# Altium integrated library ST Memory Cache-Tag RAM.IntLib: 23 symbols
Pins are listed as number, name and electrical type; pins without a type are passive.

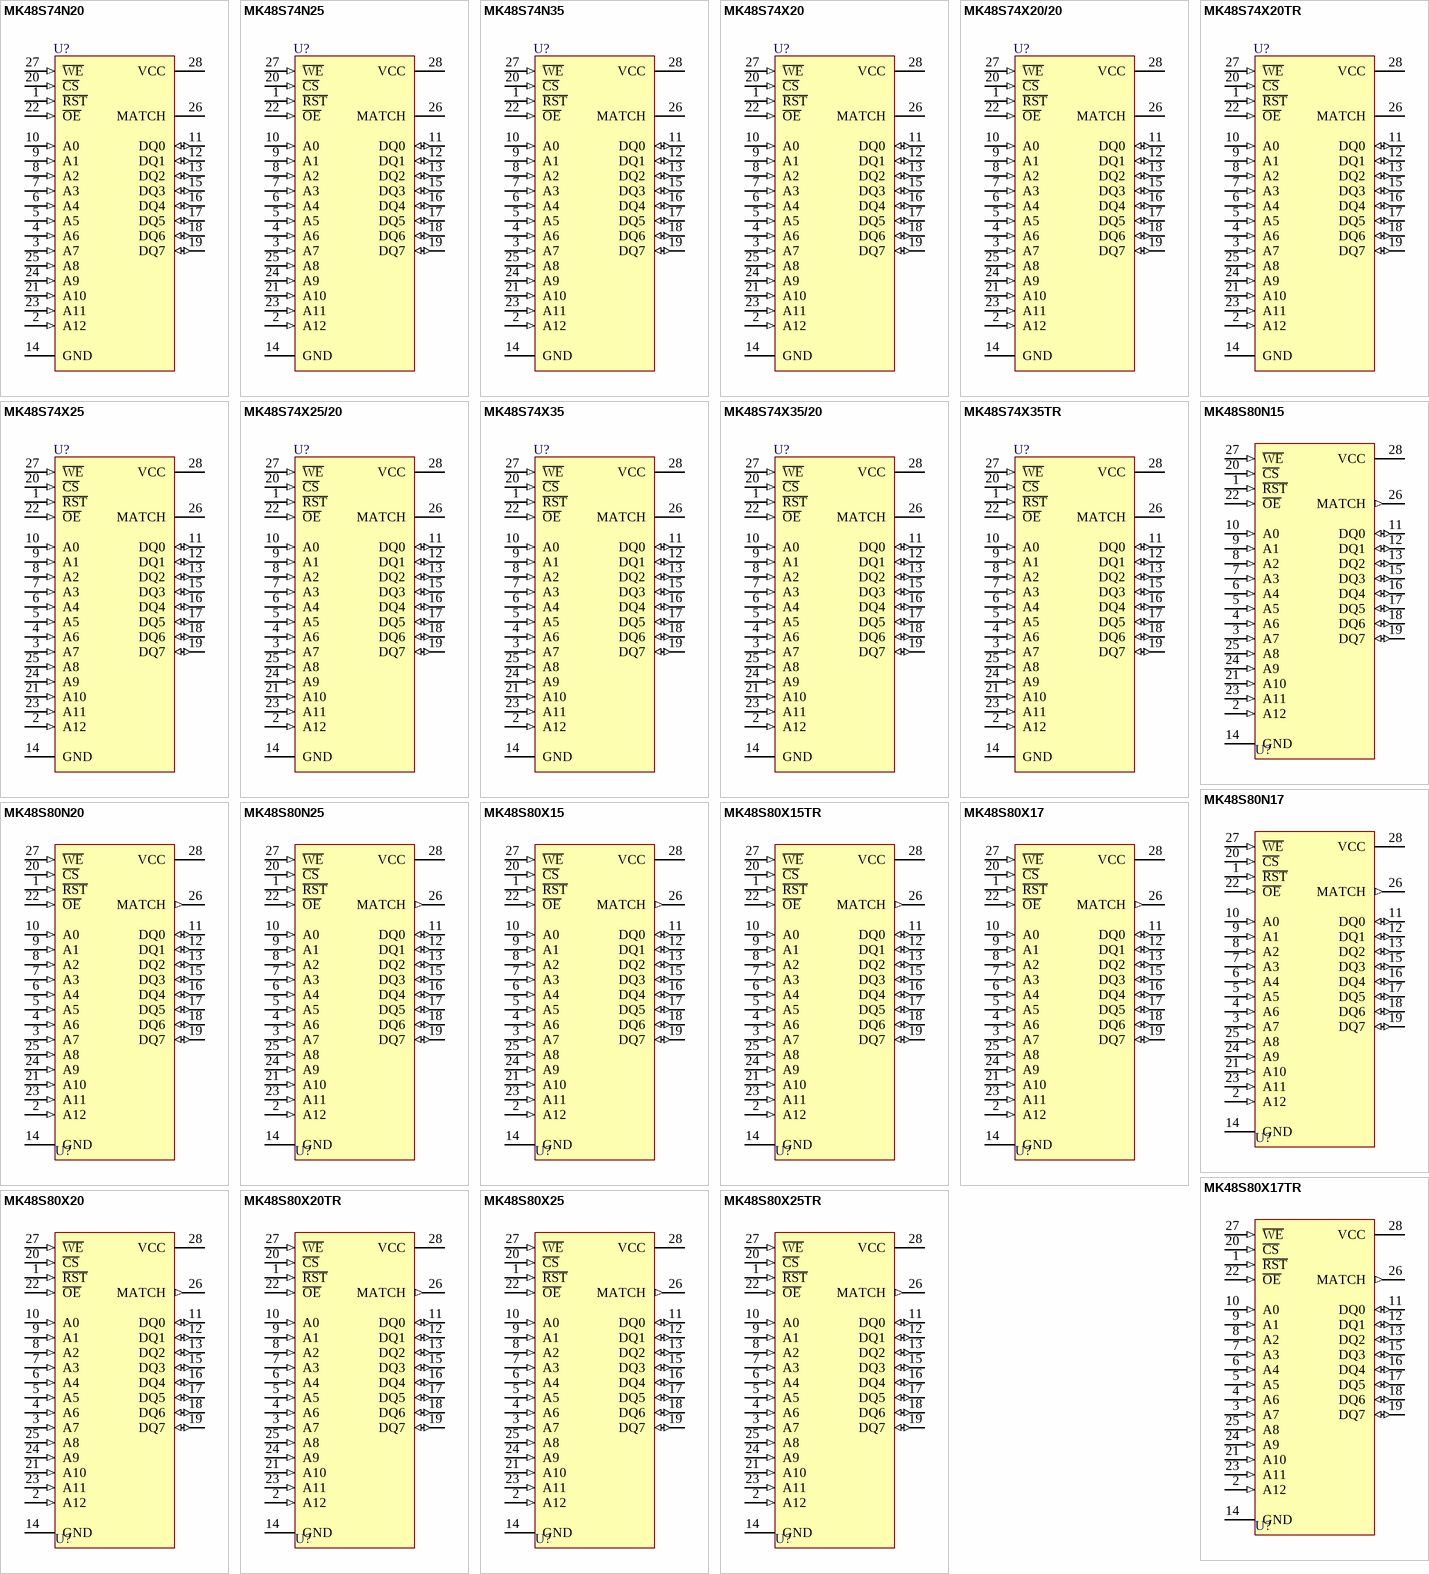
[diagram p0: symbols MK48S74N20 to MK48S80X25TR]

## MK48S74N20
designator U?
Very Fast CMOS 8K x 8 Cache Tagram; Published: 24-Aug-2001; LatestRevisionDate: 6-Jun-2005; LatestRevisionNote: Stylized 3D Model Added.; DatasheetDocument: Feb-1992; PackageReference: PSDIP28; Publisher: Altium Limited; ComponentLink1Description: Manufacturer Link; ComponentLink1URL: http://www.st.com/
footprint PSDIP28 (DIP, Plastic Skinny; 28 Leads; Row Spacing 7.62 mm; Pitch 2.54 mm)
3D model PSDIP28 (DIP, Plastic Skinny; 28 Leads; Row Spacing 7.62 mm; Pitch 2.54 mm)
pins: 1 ~{RST} (in), 2 A12 (in), 3 A7 (in), 4 A6 (in), 5 A5 (in), 6 A4 (in), 7 A3 (in), 8 A2 (in), 9 A1 (in), 10 A0 (in), 11 DQ0 (io), 12 DQ1 (io), 13 DQ2 (io), 14 GND (power), 15 DQ3 (io), 16 DQ4 (io), 17 DQ5 (io), 18 DQ6 (io), 19 DQ7 (io), 20 ~{CS} (in), 21 A10 (in), 22 ~{OE} (in), 23 A11 (in), 24 A9 (in), 25 A8 (in), 26 MATCH (oc), 27 ~{WE} (in), 28 VCC (power)

## MK48S74N25
designator U?
Very Fast CMOS 8K x 8 Cache Tagram; Published: 24-Aug-2001; LatestRevisionDate: 6-Jun-2005; LatestRevisionNote: Stylized 3D Model Added.; DatasheetDocument: Feb-1992; PackageReference: PSDIP28; Publisher: Altium Limited; ComponentLink1Description: Manufacturer Link; ComponentLink1URL: http://www.st.com/
footprint PSDIP28 (DIP, Plastic Skinny; 28 Leads; Row Spacing 7.62 mm; Pitch 2.54 mm)
3D model PSDIP28 (DIP, Plastic Skinny; 28 Leads; Row Spacing 7.62 mm; Pitch 2.54 mm)
pins: 1 ~{RST} (in), 2 A12 (in), 3 A7 (in), 4 A6 (in), 5 A5 (in), 6 A4 (in), 7 A3 (in), 8 A2 (in), 9 A1 (in), 10 A0 (in), 11 DQ0 (io), 12 DQ1 (io), 13 DQ2 (io), 14 GND (power), 15 DQ3 (io), 16 DQ4 (io), 17 DQ5 (io), 18 DQ6 (io), 19 DQ7 (io), 20 ~{CS} (in), 21 A10 (in), 22 ~{OE} (in), 23 A11 (in), 24 A9 (in), 25 A8 (in), 26 MATCH (oc), 27 ~{WE} (in), 28 VCC (power)

## MK48S74N35
designator U?
Very Fast CMOS 8K x 8 Cache Tagram; Published: 24-Aug-2001; LatestRevisionDate: 6-Jun-2005; LatestRevisionNote: Stylized 3D Model Added.; DatasheetDocument: Feb-1992; PackageReference: PSDIP28; Publisher: Altium Limited; ComponentLink1Description: Manufacturer Link; ComponentLink1URL: http://www.st.com/
footprint PSDIP28 (DIP, Plastic Skinny; 28 Leads; Row Spacing 7.62 mm; Pitch 2.54 mm)
3D model PSDIP28 (DIP, Plastic Skinny; 28 Leads; Row Spacing 7.62 mm; Pitch 2.54 mm)
pins: 1 ~{RST} (in), 2 A12 (in), 3 A7 (in), 4 A6 (in), 5 A5 (in), 6 A4 (in), 7 A3 (in), 8 A2 (in), 9 A1 (in), 10 A0 (in), 11 DQ0 (io), 12 DQ1 (io), 13 DQ2 (io), 14 GND (power), 15 DQ3 (io), 16 DQ4 (io), 17 DQ5 (io), 18 DQ6 (io), 19 DQ7 (io), 20 ~{CS} (in), 21 A10 (in), 22 ~{OE} (in), 23 A11 (in), 24 A9 (in), 25 A8 (in), 26 MATCH (oc), 27 ~{WE} (in), 28 VCC (power)

## MK48S74X20
designator U?
Very Fast CMOS 8K x 8 Cache Tagram; Published: 24-Aug-2001; LatestRevisionDate: 17-Jul-2002; LatestRevisionNote: Re-released for DXP Platform.; DatasheetDocument: Feb-1992; PackageDocument: Feb-1997; PackageReference: SOJ28; Publisher: Altium Limited; Code_JEDEC: MO-088-AF; ComponentLink1Description: Manufacturer Link; ComponentLink1URL: http://www.st.com/
footprint SOJ28 (SOJ; 28 Leads; Body Width 7.5 mm; Pitch 1.27 mm)
pins: 1 ~{RST} (in), 2 A12 (in), 3 A7 (in), 4 A6 (in), 5 A5 (in), 6 A4 (in), 7 A3 (in), 8 A2 (in), 9 A1 (in), 10 A0 (in), 11 DQ0 (io), 12 DQ1 (io), 13 DQ2 (io), 14 GND (power), 15 DQ3 (io), 16 DQ4 (io), 17 DQ5 (io), 18 DQ6 (io), 19 DQ7 (io), 20 ~{CS} (in), 21 A10 (in), 22 ~{OE} (in), 23 A11 (in), 24 A9 (in), 25 A8 (in), 26 MATCH (oc), 27 ~{WE} (in), 28 VCC (power)

## MK48S74X20/20
designator U?
Very Fast CMOS 8K x 8 Cache Tagram; Published: 24-Aug-2001; LatestRevisionDate: 17-Jul-2002; LatestRevisionNote: Re-released for DXP Platform.; DatasheetDocument: Feb-1992; PackageDocument: Feb-1997; PackageReference: SOJ28; Publisher: Altium Limited; Code_JEDEC: MO-088-AF; ComponentLink1Description: Manufacturer Link; ComponentLink1URL: http://www.st.com/
footprint SOJ28 (SOJ; 28 Leads; Body Width 7.5 mm; Pitch 1.27 mm)
pins: 1 ~{RST} (in), 2 A12 (in), 3 A7 (in), 4 A6 (in), 5 A5 (in), 6 A4 (in), 7 A3 (in), 8 A2 (in), 9 A1 (in), 10 A0 (in), 11 DQ0 (io), 12 DQ1 (io), 13 DQ2 (io), 14 GND (power), 15 DQ3 (io), 16 DQ4 (io), 17 DQ5 (io), 18 DQ6 (io), 19 DQ7 (io), 20 ~{CS} (in), 21 A10 (in), 22 ~{OE} (in), 23 A11 (in), 24 A9 (in), 25 A8 (in), 26 MATCH (oc), 27 ~{WE} (in), 28 VCC (power)

## MK48S74X20TR
designator U?
Very Fast CMOS 8K x 8 Cache Tagram; Published: 24-Aug-2001; LatestRevisionDate: 17-Jul-2002; LatestRevisionNote: Re-released for DXP Platform.; DatasheetDocument: Feb-1992; PackageDocument: Feb-1997; PackageReference: SOJ28; Publisher: Altium Limited; Code_JEDEC: MO-088-AF; ComponentLink1Description: Manufacturer Link; ComponentLink1URL: http://www.st.com/
footprint SOJ28 (SOJ; 28 Leads; Body Width 7.5 mm; Pitch 1.27 mm)
pins: 1 ~{RST} (in), 2 A12 (in), 3 A7 (in), 4 A6 (in), 5 A5 (in), 6 A4 (in), 7 A3 (in), 8 A2 (in), 9 A1 (in), 10 A0 (in), 11 DQ0 (io), 12 DQ1 (io), 13 DQ2 (io), 14 GND (power), 15 DQ3 (io), 16 DQ4 (io), 17 DQ5 (io), 18 DQ6 (io), 19 DQ7 (io), 20 ~{CS} (in), 21 A10 (in), 22 ~{OE} (in), 23 A11 (in), 24 A9 (in), 25 A8 (in), 26 MATCH (oc), 27 ~{WE} (in), 28 VCC (power)

## MK48S74X25
designator U?
Very Fast CMOS 8K x 8 Cache Tagram; Published: 24-Aug-2001; LatestRevisionDate: 17-Jul-2002; LatestRevisionNote: Re-released for DXP Platform.; DatasheetDocument: Feb-1992; PackageDocument: Feb-1997; PackageReference: SOJ28; Publisher: Altium Limited; Code_JEDEC: MO-088-AF; ComponentLink1Description: Manufacturer Link; ComponentLink1URL: http://www.st.com/
footprint SOJ28 (SOJ; 28 Leads; Body Width 7.5 mm; Pitch 1.27 mm)
pins: 1 ~{RST} (in), 2 A12 (in), 3 A7 (in), 4 A6 (in), 5 A5 (in), 6 A4 (in), 7 A3 (in), 8 A2 (in), 9 A1 (in), 10 A0 (in), 11 DQ0 (io), 12 DQ1 (io), 13 DQ2 (io), 14 GND (power), 15 DQ3 (io), 16 DQ4 (io), 17 DQ5 (io), 18 DQ6 (io), 19 DQ7 (io), 20 ~{CS} (in), 21 A10 (in), 22 ~{OE} (in), 23 A11 (in), 24 A9 (in), 25 A8 (in), 26 MATCH (oc), 27 ~{WE} (in), 28 VCC (power)

## MK48S74X25/20
designator U?
Very Fast CMOS 8K x 8 Cache Tagram; Published: 24-Aug-2001; LatestRevisionDate: 17-Jul-2002; LatestRevisionNote: Re-released for DXP Platform.; DatasheetDocument: Feb-1992; PackageDocument: Feb-1997; PackageReference: SOJ28; Publisher: Altium Limited; Code_JEDEC: MO-088-AF; ComponentLink1Description: Manufacturer Link; ComponentLink1URL: http://www.st.com/
footprint SOJ28 (SOJ; 28 Leads; Body Width 7.5 mm; Pitch 1.27 mm)
pins: 1 ~{RST} (in), 2 A12 (in), 3 A7 (in), 4 A6 (in), 5 A5 (in), 6 A4 (in), 7 A3 (in), 8 A2 (in), 9 A1 (in), 10 A0 (in), 11 DQ0 (io), 12 DQ1 (io), 13 DQ2 (io), 14 GND (power), 15 DQ3 (io), 16 DQ4 (io), 17 DQ5 (io), 18 DQ6 (io), 19 DQ7 (io), 20 ~{CS} (in), 21 A10 (in), 22 ~{OE} (in), 23 A11 (in), 24 A9 (in), 25 A8 (in), 26 MATCH (oc), 27 ~{WE} (in), 28 VCC (power)

## MK48S74X35
designator U?
Very Fast CMOS 8K x 8 Cache Tagram; Published: 24-Aug-2001; LatestRevisionDate: 17-Jul-2002; LatestRevisionNote: Re-released for DXP Platform.; DatasheetDocument: Feb-1992; PackageDocument: Feb-1997; PackageReference: SOJ28; Publisher: Altium Limited; Code_JEDEC: MO-088-AF; ComponentLink1Description: Manufacturer Link; ComponentLink1URL: http://www.st.com/
footprint SOJ28 (SOJ; 28 Leads; Body Width 7.5 mm; Pitch 1.27 mm)
pins: 1 ~{RST} (in), 2 A12 (in), 3 A7 (in), 4 A6 (in), 5 A5 (in), 6 A4 (in), 7 A3 (in), 8 A2 (in), 9 A1 (in), 10 A0 (in), 11 DQ0 (io), 12 DQ1 (io), 13 DQ2 (io), 14 GND (power), 15 DQ3 (io), 16 DQ4 (io), 17 DQ5 (io), 18 DQ6 (io), 19 DQ7 (io), 20 ~{CS} (in), 21 A10 (in), 22 ~{OE} (in), 23 A11 (in), 24 A9 (in), 25 A8 (in), 26 MATCH (oc), 27 ~{WE} (in), 28 VCC (power)

## MK48S74X35/20
designator U?
Very Fast CMOS 8K x 8 Cache Tagram; Published: 24-Aug-2001; LatestRevisionDate: 17-Jul-2002; LatestRevisionNote: Re-released for DXP Platform.; DatasheetDocument: Feb-1992; PackageDocument: Feb-1997; PackageReference: SOJ28; Publisher: Altium Limited; Code_JEDEC: MO-088-AF; ComponentLink1Description: Manufacturer Link; ComponentLink1URL: http://www.st.com/
footprint SOJ28 (SOJ; 28 Leads; Body Width 7.5 mm; Pitch 1.27 mm)
pins: 1 ~{RST} (in), 2 A12 (in), 3 A7 (in), 4 A6 (in), 5 A5 (in), 6 A4 (in), 7 A3 (in), 8 A2 (in), 9 A1 (in), 10 A0 (in), 11 DQ0 (io), 12 DQ1 (io), 13 DQ2 (io), 14 GND (power), 15 DQ3 (io), 16 DQ4 (io), 17 DQ5 (io), 18 DQ6 (io), 19 DQ7 (io), 20 ~{CS} (in), 21 A10 (in), 22 ~{OE} (in), 23 A11 (in), 24 A9 (in), 25 A8 (in), 26 MATCH (oc), 27 ~{WE} (in), 28 VCC (power)

## MK48S74X35TR
designator U?
Very Fast CMOS 8K x 8 Cache Tagram; Published: 24-Aug-2001; LatestRevisionDate: 17-Jul-2002; LatestRevisionNote: Re-released for DXP Platform.; DatasheetDocument: Feb-1992; PackageDocument: Feb-1997; PackageReference: SOJ28; Publisher: Altium Limited; Code_JEDEC: MO-088-AF; ComponentLink1Description: Manufacturer Link; ComponentLink1URL: http://www.st.com/
footprint SOJ28 (SOJ; 28 Leads; Body Width 7.5 mm; Pitch 1.27 mm)
pins: 1 ~{RST} (in), 2 A12 (in), 3 A7 (in), 4 A6 (in), 5 A5 (in), 6 A4 (in), 7 A3 (in), 8 A2 (in), 9 A1 (in), 10 A0 (in), 11 DQ0 (io), 12 DQ1 (io), 13 DQ2 (io), 14 GND (power), 15 DQ3 (io), 16 DQ4 (io), 17 DQ5 (io), 18 DQ6 (io), 19 DQ7 (io), 20 ~{CS} (in), 21 A10 (in), 22 ~{OE} (in), 23 A11 (in), 24 A9 (in), 25 A8 (in), 26 MATCH (oc), 27 ~{WE} (in), 28 VCC (power)

## MK48S80N15
designator U?
Very Fast CMOS 8K x 8 Cache Tagram; Published: 24-Aug-2001; LatestRevisionDate: 6-Jun-2005; LatestRevisionNote: Stylized 3D Model Added.; DatasheetDocument: Feb-1992; PackageReference: PSDIP28; Publisher: Altium Limited; ComponentLink1Description: Manufacturer Link; ComponentLink1URL: http://www.st.com/
footprint PSDIP28 (DIP, Plastic Skinny; 28 Leads; Row Spacing 7.62 mm; Pitch 2.54 mm)
3D model PSDIP28 (DIP, Plastic Skinny; 28 Leads; Row Spacing 7.62 mm; Pitch 2.54 mm)
pins: 1 ~{RST} (in), 2 A12 (in), 3 A7 (in), 4 A6 (in), 5 A5 (in), 6 A4 (in), 7 A3 (in), 8 A2 (in), 9 A1 (in), 10 A0 (in), 11 DQ0 (io), 12 DQ1 (io), 13 DQ2 (io), 14 GND (power), 15 DQ3 (io), 16 DQ4 (io), 17 DQ5 (io), 18 DQ6 (io), 19 DQ7 (io), 20 ~{CS} (in), 21 A10 (in), 22 ~{OE} (in), 23 A11 (in), 24 A9 (in), 25 A8 (in), 26 MATCH (out), 27 ~{WE} (in), 28 VCC (power)

## MK48S80N17
designator U?
Very Fast CMOS 8K x 8 Cache Tagram; Published: 24-Aug-2001; LatestRevisionDate: 6-Jun-2005; LatestRevisionNote: Stylized 3D Model Added.; DatasheetDocument: Feb-1992; PackageReference: PSDIP28; Publisher: Altium Limited; ComponentLink1Description: Manufacturer Link; ComponentLink1URL: http://www.st.com/
footprint PSDIP28 (DIP, Plastic Skinny; 28 Leads; Row Spacing 7.62 mm; Pitch 2.54 mm)
3D model PSDIP28 (DIP, Plastic Skinny; 28 Leads; Row Spacing 7.62 mm; Pitch 2.54 mm)
pins: 1 ~{RST} (in), 2 A12 (in), 3 A7 (in), 4 A6 (in), 5 A5 (in), 6 A4 (in), 7 A3 (in), 8 A2 (in), 9 A1 (in), 10 A0 (in), 11 DQ0 (io), 12 DQ1 (io), 13 DQ2 (io), 14 GND (power), 15 DQ3 (io), 16 DQ4 (io), 17 DQ5 (io), 18 DQ6 (io), 19 DQ7 (io), 20 ~{CS} (in), 21 A10 (in), 22 ~{OE} (in), 23 A11 (in), 24 A9 (in), 25 A8 (in), 26 MATCH (out), 27 ~{WE} (in), 28 VCC (power)

## MK48S80N20
designator U?
Very Fast CMOS 8K x 8 Cache Tagram; Published: 24-Aug-2001; LatestRevisionDate: 6-Jun-2005; LatestRevisionNote: Stylized 3D Model Added.; DatasheetDocument: Feb-1992; PackageReference: PSDIP28; Publisher: Altium Limited; ComponentLink1Description: Manufacturer Link; ComponentLink1URL: http://www.st.com/
footprint PSDIP28 (DIP, Plastic Skinny; 28 Leads; Row Spacing 7.62 mm; Pitch 2.54 mm)
3D model PSDIP28 (DIP, Plastic Skinny; 28 Leads; Row Spacing 7.62 mm; Pitch 2.54 mm)
pins: 1 ~{RST} (in), 2 A12 (in), 3 A7 (in), 4 A6 (in), 5 A5 (in), 6 A4 (in), 7 A3 (in), 8 A2 (in), 9 A1 (in), 10 A0 (in), 11 DQ0 (io), 12 DQ1 (io), 13 DQ2 (io), 14 GND (power), 15 DQ3 (io), 16 DQ4 (io), 17 DQ5 (io), 18 DQ6 (io), 19 DQ7 (io), 20 ~{CS} (in), 21 A10 (in), 22 ~{OE} (in), 23 A11 (in), 24 A9 (in), 25 A8 (in), 26 MATCH (out), 27 ~{WE} (in), 28 VCC (power)

## MK48S80N25
designator U?
Very Fast CMOS 8K x 8 Cache Tagram; Published: 24-Aug-2001; LatestRevisionDate: 6-Jun-2005; LatestRevisionNote: Stylized 3D Model Added.; DatasheetDocument: Feb-1992; PackageReference: PSDIP28; Publisher: Altium Limited; ComponentLink1Description: Manufacturer Link; ComponentLink1URL: http://www.st.com/
footprint PSDIP28 (DIP, Plastic Skinny; 28 Leads; Row Spacing 7.62 mm; Pitch 2.54 mm)
3D model PSDIP28 (DIP, Plastic Skinny; 28 Leads; Row Spacing 7.62 mm; Pitch 2.54 mm)
pins: 1 ~{RST} (in), 2 A12 (in), 3 A7 (in), 4 A6 (in), 5 A5 (in), 6 A4 (in), 7 A3 (in), 8 A2 (in), 9 A1 (in), 10 A0 (in), 11 DQ0 (io), 12 DQ1 (io), 13 DQ2 (io), 14 GND (power), 15 DQ3 (io), 16 DQ4 (io), 17 DQ5 (io), 18 DQ6 (io), 19 DQ7 (io), 20 ~{CS} (in), 21 A10 (in), 22 ~{OE} (in), 23 A11 (in), 24 A9 (in), 25 A8 (in), 26 MATCH (out), 27 ~{WE} (in), 28 VCC (power)

## MK48S80X15
designator U?
Very Fast CMOS 8K x 8 Cache Tagram; Published: 24-Aug-2001; LatestRevisionDate: 17-Jul-2002; LatestRevisionNote: Re-released for DXP Platform.; DatasheetDocument: Feb-1992; PackageDocument: Feb-1997; PackageReference: SOJ28; Publisher: Altium Limited; Code_JEDEC: MO-088-AF; ComponentLink1Description: Manufacturer Link; ComponentLink1URL: http://www.st.com/
footprint SOJ28 (SOJ; 28 Leads; Body Width 7.5 mm; Pitch 1.27 mm)
pins: 1 ~{RST} (in), 2 A12 (in), 3 A7 (in), 4 A6 (in), 5 A5 (in), 6 A4 (in), 7 A3 (in), 8 A2 (in), 9 A1 (in), 10 A0 (in), 11 DQ0 (io), 12 DQ1 (io), 13 DQ2 (io), 14 GND (power), 15 DQ3 (io), 16 DQ4 (io), 17 DQ5 (io), 18 DQ6 (io), 19 DQ7 (io), 20 ~{CS} (in), 21 A10 (in), 22 ~{OE} (in), 23 A11 (in), 24 A9 (in), 25 A8 (in), 26 MATCH (out), 27 ~{WE} (in), 28 VCC (power)

## MK48S80X15TR
designator U?
Very Fast CMOS 8K x 8 Cache Tagram; Published: 24-Aug-2001; LatestRevisionDate: 17-Jul-2002; LatestRevisionNote: Re-released for DXP Platform.; DatasheetDocument: Feb-1992; PackageDocument: Feb-1997; PackageReference: SOJ28; Publisher: Altium Limited; Code_JEDEC: MO-088-AF; ComponentLink1Description: Manufacturer Link; ComponentLink1URL: http://www.st.com/
footprint SOJ28 (SOJ; 28 Leads; Body Width 7.5 mm; Pitch 1.27 mm)
pins: 1 ~{RST} (in), 2 A12 (in), 3 A7 (in), 4 A6 (in), 5 A5 (in), 6 A4 (in), 7 A3 (in), 8 A2 (in), 9 A1 (in), 10 A0 (in), 11 DQ0 (io), 12 DQ1 (io), 13 DQ2 (io), 14 GND (power), 15 DQ3 (io), 16 DQ4 (io), 17 DQ5 (io), 18 DQ6 (io), 19 DQ7 (io), 20 ~{CS} (in), 21 A10 (in), 22 ~{OE} (in), 23 A11 (in), 24 A9 (in), 25 A8 (in), 26 MATCH (out), 27 ~{WE} (in), 28 VCC (power)

## MK48S80X17
designator U?
Very Fast CMOS 8K x 8 Cache Tagram; Published: 24-Aug-2001; LatestRevisionDate: 17-Jul-2002; LatestRevisionNote: Re-released for DXP Platform.; DatasheetDocument: Feb-1992; PackageDocument: Feb-1997; PackageReference: SOJ28; Publisher: Altium Limited; Code_JEDEC: MO-088-AF; ComponentLink1Description: Manufacturer Link; ComponentLink1URL: http://www.st.com/
footprint SOJ28 (SOJ; 28 Leads; Body Width 7.5 mm; Pitch 1.27 mm)
pins: 1 ~{RST} (in), 2 A12 (in), 3 A7 (in), 4 A6 (in), 5 A5 (in), 6 A4 (in), 7 A3 (in), 8 A2 (in), 9 A1 (in), 10 A0 (in), 11 DQ0 (io), 12 DQ1 (io), 13 DQ2 (io), 14 GND (power), 15 DQ3 (io), 16 DQ4 (io), 17 DQ5 (io), 18 DQ6 (io), 19 DQ7 (io), 20 ~{CS} (in), 21 A10 (in), 22 ~{OE} (in), 23 A11 (in), 24 A9 (in), 25 A8 (in), 26 MATCH (out), 27 ~{WE} (in), 28 VCC (power)

## MK48S80X17TR
designator U?
Very Fast CMOS 8K x 8 Cache Tagram; Published: 24-Aug-2001; LatestRevisionDate: 17-Jul-2002; LatestRevisionNote: Re-released for DXP Platform.; DatasheetDocument: Feb-1992; PackageDocument: Feb-1997; PackageReference: SOJ28; Publisher: Altium Limited; Code_JEDEC: MO-088-AF; ComponentLink1Description: Manufacturer Link; ComponentLink1URL: http://www.st.com/
footprint SOJ28 (SOJ; 28 Leads; Body Width 7.5 mm; Pitch 1.27 mm)
pins: 1 ~{RST} (in), 2 A12 (in), 3 A7 (in), 4 A6 (in), 5 A5 (in), 6 A4 (in), 7 A3 (in), 8 A2 (in), 9 A1 (in), 10 A0 (in), 11 DQ0 (io), 12 DQ1 (io), 13 DQ2 (io), 14 GND (power), 15 DQ3 (io), 16 DQ4 (io), 17 DQ5 (io), 18 DQ6 (io), 19 DQ7 (io), 20 ~{CS} (in), 21 A10 (in), 22 ~{OE} (in), 23 A11 (in), 24 A9 (in), 25 A8 (in), 26 MATCH (out), 27 ~{WE} (in), 28 VCC (power)

## MK48S80X20
designator U?
Very Fast CMOS 8K x 8 Cache Tagram; Published: 24-Aug-2001; LatestRevisionDate: 17-Jul-2002; LatestRevisionNote: Re-released for DXP Platform.; DatasheetDocument: Feb-1992; PackageDocument: Feb-1997; PackageReference: SOJ28; Publisher: Altium Limited; Code_JEDEC: MO-088-AF; ComponentLink1Description: Manufacturer Link; ComponentLink1URL: http://www.st.com/
footprint SOJ28 (SOJ; 28 Leads; Body Width 7.5 mm; Pitch 1.27 mm)
pins: 1 ~{RST} (in), 2 A12 (in), 3 A7 (in), 4 A6 (in), 5 A5 (in), 6 A4 (in), 7 A3 (in), 8 A2 (in), 9 A1 (in), 10 A0 (in), 11 DQ0 (io), 12 DQ1 (io), 13 DQ2 (io), 14 GND (power), 15 DQ3 (io), 16 DQ4 (io), 17 DQ5 (io), 18 DQ6 (io), 19 DQ7 (io), 20 ~{CS} (in), 21 A10 (in), 22 ~{OE} (in), 23 A11 (in), 24 A9 (in), 25 A8 (in), 26 MATCH (out), 27 ~{WE} (in), 28 VCC (power)

## MK48S80X20TR
designator U?
Very Fast CMOS 8K x 8 Cache Tagram; Published: 24-Aug-2001; LatestRevisionDate: 17-Jul-2002; LatestRevisionNote: Re-released for DXP Platform.; DatasheetDocument: Feb-1992; PackageDocument: Feb-1997; PackageReference: SOJ28; Publisher: Altium Limited; Code_JEDEC: MO-088-AF; ComponentLink1Description: Manufacturer Link; ComponentLink1URL: http://www.st.com/
footprint SOJ28 (SOJ; 28 Leads; Body Width 7.5 mm; Pitch 1.27 mm)
pins: 1 ~{RST} (in), 2 A12 (in), 3 A7 (in), 4 A6 (in), 5 A5 (in), 6 A4 (in), 7 A3 (in), 8 A2 (in), 9 A1 (in), 10 A0 (in), 11 DQ0 (io), 12 DQ1 (io), 13 DQ2 (io), 14 GND (power), 15 DQ3 (io), 16 DQ4 (io), 17 DQ5 (io), 18 DQ6 (io), 19 DQ7 (io), 20 ~{CS} (in), 21 A10 (in), 22 ~{OE} (in), 23 A11 (in), 24 A9 (in), 25 A8 (in), 26 MATCH (out), 27 ~{WE} (in), 28 VCC (power)

## MK48S80X25
designator U?
Very Fast CMOS 8K x 8 Cache Tagram; Published: 24-Aug-2001; LatestRevisionDate: 17-Jul-2002; LatestRevisionNote: Re-released for DXP Platform.; DatasheetDocument: Feb-1992; PackageDocument: Feb-1997; PackageReference: SOJ28; Publisher: Altium Limited; Code_JEDEC: MO-088-AF; ComponentLink1Description: Manufacturer Link; ComponentLink1URL: http://www.st.com/
footprint SOJ28 (SOJ; 28 Leads; Body Width 7.5 mm; Pitch 1.27 mm)
pins: 1 ~{RST} (in), 2 A12 (in), 3 A7 (in), 4 A6 (in), 5 A5 (in), 6 A4 (in), 7 A3 (in), 8 A2 (in), 9 A1 (in), 10 A0 (in), 11 DQ0 (io), 12 DQ1 (io), 13 DQ2 (io), 14 GND (power), 15 DQ3 (io), 16 DQ4 (io), 17 DQ5 (io), 18 DQ6 (io), 19 DQ7 (io), 20 ~{CS} (in), 21 A10 (in), 22 ~{OE} (in), 23 A11 (in), 24 A9 (in), 25 A8 (in), 26 MATCH (out), 27 ~{WE} (in), 28 VCC (power)

## MK48S80X25TR
designator U?
Very Fast CMOS 8K x 8 Cache Tagram; Published: 24-Aug-2001; LatestRevisionDate: 17-Jul-2002; LatestRevisionNote: Re-released for DXP Platform.; DatasheetDocument: Feb-1992; PackageDocument: Feb-1997; PackageReference: SOJ28; Publisher: Altium Limited; Code_JEDEC: MO-088-AF; ComponentLink1Description: Manufacturer Link; ComponentLink1URL: http://www.st.com/
footprint SOJ28 (SOJ; 28 Leads; Body Width 7.5 mm; Pitch 1.27 mm)
pins: 1 ~{RST} (in), 2 A12 (in), 3 A7 (in), 4 A6 (in), 5 A5 (in), 6 A4 (in), 7 A3 (in), 8 A2 (in), 9 A1 (in), 10 A0 (in), 11 DQ0 (io), 12 DQ1 (io), 13 DQ2 (io), 14 GND (power), 15 DQ3 (io), 16 DQ4 (io), 17 DQ5 (io), 18 DQ6 (io), 19 DQ7 (io), 20 ~{CS} (in), 21 A10 (in), 22 ~{OE} (in), 23 A11 (in), 24 A9 (in), 25 A8 (in), 26 MATCH (out), 27 ~{WE} (in), 28 VCC (power)